# Altium footprint library CAPC1608X95N.PcbLib: 1 footprints
Each footprint in its own frame and in the unit in brackets; x right, y up, seen from the top. Pads: shape width x height; smd on the part's side, far side on the other; paste and mask are expansions set on the pad; w line width, h text height; cw(c..) or ccw(c..) is an arc to the next point about the centre after c.
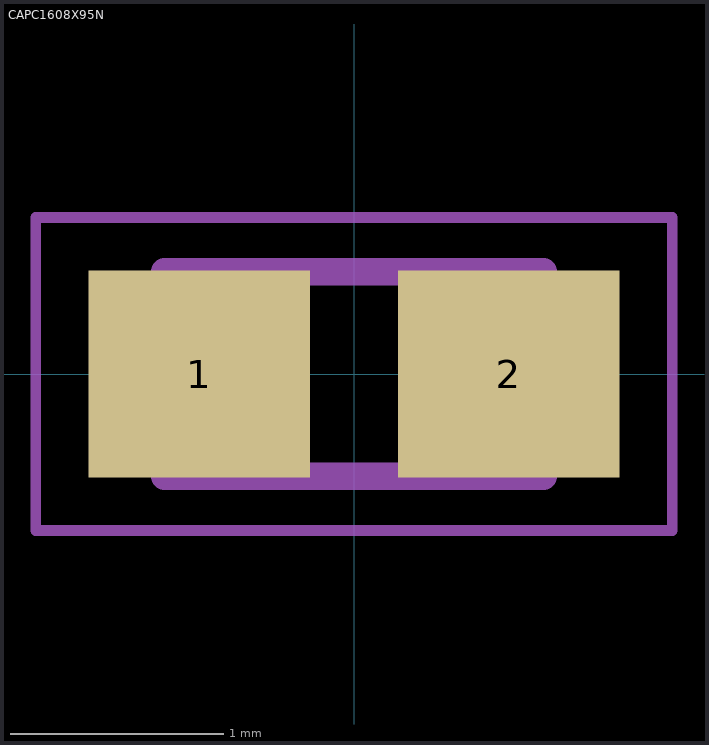
[diagram p0: the footprint, top view; thin cyan lines are the x and y axes]

## CAPC1608X95N [mm]
pads (2):
  rect 1.04x0.97 smd paste+0 mask+0.102: 1(-0.726,0) 2(0.726,0)
Assembly Top:
  lines w0.127: -0.89,-0.48 -0.89,0.48 0.89,0.48 0.89,-0.48 -0.89,-0.48
Courtyard Top:
  lines w0.05: -1.494,-0.735 -1.494,0.735 1.494,0.735 1.494,-0.735 -1.494,-0.735
3D body "step_temp.STEP": height 0.95, standoff 0, extent -0.8,-0.4 0.8,0.4